# EAGLE library part ATTINY441/841 (library rgb-led)
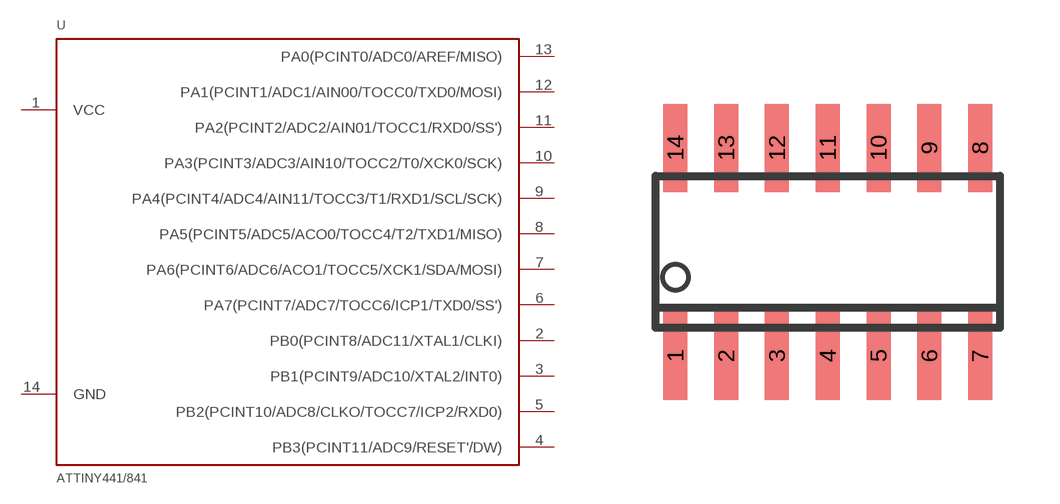
[diagram p1: symbol with the pads of SOIC-14; footprint SOIC-14]

Designator prefix U

## ATTINY441/841SSU/SSUR  [SOIC-14]
1  VCC
2  PB0(PCINT8/ADC11/XTAL1/CLKI)
3  PB1(PCINT9/ADC10/XTAL2/INT0)
4  PB3(PCINT11/ADC9/RESET'/DW)
5  PB2(PCINT10/ADC8/CLKO/TOCC7/ICP2/RXD0)
6  PA7(PCINT7/ADC7/TOCC6/ICP1/TXD0/SS')
7  PA6(PCINT6/ADC6/ACO1/TOCC5/XCK1/SDA/MOSI)
8  PA5(PCINT5/ADC5/ACO0/TOCC4/T2/TXD1/MISO)
9  PA4(PCINT4/ADC4/AIN11/TOCC3/T1/RXD1/SCL/SCK)
10  PA3(PCINT3/ADC3/AIN10/TOCC2/T0/XCK0/SCK)
11  PA2(PCINT2/ADC2/AIN01/TOCC1/RXD0/SS')
12  PA1(PCINT1/ADC1/AIN00/TOCC0/TXD0/MOSI)
13  PA0(PCINT0/ADC0/AREF/MISO)
14  GND

## Footprint SOIC-14 (pad centres in mm)
smd 0.6 x 2.2: 1 -3.81,-2.6; 2 -2.54,-2.6; 3 -1.27,-2.6; 4 0,-2.6; 5 1.27,-2.6; 6 2.54,-2.6; 7 3.81,-2.6; 8 3.81,2.6; 9 2.54,2.6; 10 1.27,2.6; 11 0,2.6; 12 -1.27,2.6; 13 -2.54,2.6; 14 -3.81,2.6